# EAGLE library part BA56-12EWA (library Kingbright)
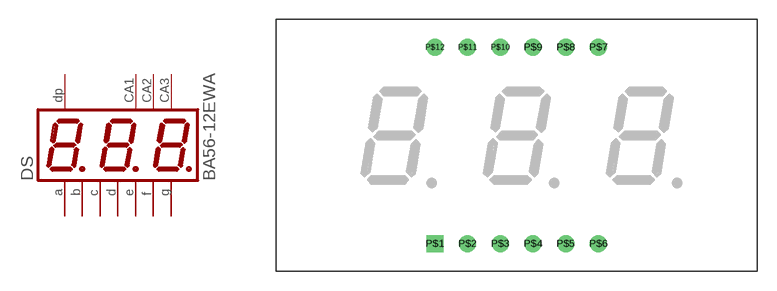
[diagram p3: symbol with the pads of BA56-12EWA; footprint BA56-12EWA]

Designator prefix DS

## BA56-12EWA  [BA56-12EWA]
P$1  E  pas
P$2  D  pas
P$3  DP  pas
P$4  C  pas
P$5  G  pas
P$7  B  pas
P$8  CA  pas
P$9  CA  pas
P$10  F  pas
P$11  A  pas
P$12  CA  pas

## Footprint BA56-12EWA (pad centres in mm)
drill 0.8 square: P$1 -6.35,-7.62
drill 0.8 round: P$2 -3.81,-7.62; P$3 -1.27,-7.62; P$4 1.27,-7.62; P$5 3.81,-7.62; P$6 6.35,-7.62; P$7 6.35,7.62; P$8 3.81,7.62; P$9 1.27,7.62; P$10 -1.27,7.62; P$11 -3.81,7.62; P$12 -6.35,7.62